# Altium footprint library IE0925031.PcbLib: 1 footprints
Each footprint in its own frame and in the unit in brackets; x right, y up, seen from the top. Pads: shape width x height; smd on the part's side, far side on the other; paste and mask are expansions set on the pad; w line width, h text height; cw(c..) or ccw(c..) is an arc to the next point about the centre after c.
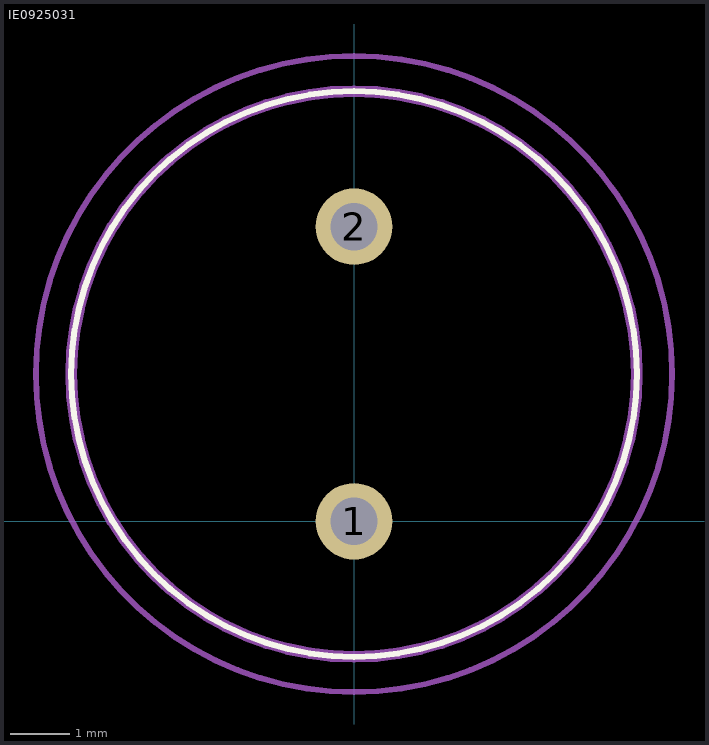
[diagram p0: the footprint, top view; thin cyan lines are the x and y axes]

## IE0925031 [mm]
pads (2):
  round 1.3 hole 0.8: 1(0,0) 2(0,5)
Top Overlay:
  lines w0.1: -4.8,2.5 -4.8,2.5 ; -4.8,2.5 ccw(c0,2.5) 4.8,2.5 ; -4.8,2.5 cw(c0,2.5) 4.8,2.5 ; 4.8,2.5 4.8,2.5
Mechanical 15:
  lines w0.2: -4.8,2.5 -4.8,2.5 ; -4.8,2.5 ccw(c0,2.5) 4.8,2.5 ; -4.8,2.5 cw(c0,2.5) 4.8,2.5 ; 4.8,2.5 4.8,2.5
Mechanical 20:
  lines w0.1: -5.4,2.5 -5.4,2.5 ; -5.4,2.5 ccw(c0,2.5) 5.4,2.5 ; -5.4,2.5 cw(c0,2.5) 5.4,2.5 ; 5.4,2.5 5.4,2.5